# EAGLE library part 40W_PI_HAT_TPH (library PiDemo_Parts)
PIN HEADER
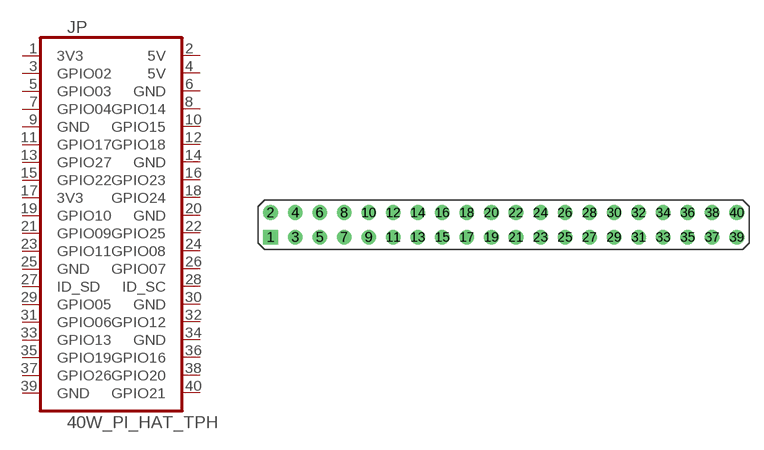
[diagram p0: symbol with the pads of 2X20; footprint 2X20]

Designator prefix JP

## 40W_PI_HAT_TPH  [2X20]
1  3V3  pas
2  5V  pas
3  GPIO02  pas
4  5V  pas
5  GPIO03  pas
6  GND  pas
7  GPIO04  pas
8  GPIO14  pas
9  GND  pas
10  GPIO15  pas
11  GPIO17  pas
12  GPIO18  pas
13  GPIO27  pas
14  GND  pas
15  GPIO22  pas
16  GPIO23  pas
17  3V3  pas
18  GPIO24  pas
19  GPIO10  pas
20  GND  pas
21  GPIO09  pas
22  GPIO25  pas
23  GPIO11  pas
24  GPIO08  pas
25  GND  pas
26  GPIO07  pas
27  ID_SD  pas
28  ID_SC  pas
29  GPIO05  pas
30  GND  pas
31  GPIO06  pas
32  GPIO12  pas
33  GPIO13  pas
34  GND  pas
35  GPIO19  pas
36  GPIO16  pas
37  GPIO26  pas
38  GPIO20  pas
39  GND  pas
40  GPIO21  pas

## Footprint 2X20 (pad centres in mm)
PIN HEADER
drill 1 square: 1 -24.13,-1.27
drill 1: 2 -24.13,1.27; 3 -21.59,-1.27; 4 -21.59,1.27; 5 -19.05,-1.27; 6 -19.05,1.27; 7 -16.51,-1.27; 8 -16.51,1.27; 9 -13.97,-1.27; 10 -13.97,1.27; 11 -11.43,-1.27; 12 -11.43,1.27; 13 -8.89,-1.27; 14 -8.89,1.27; 15 -6.35,-1.27; 16 -6.35,1.27; 17 -3.81,-1.27; 18 -3.81,1.27; 19 -1.27,-1.27; 20 -1.27,1.27; 21 1.27,-1.27; 22 1.27,1.27; 23 3.81,-1.27; 24 3.81,1.27; 25 6.35,-1.27; 26 6.35,1.27; 27 8.89,-1.27; 28 8.89,1.27; 29 11.43,-1.27; 30 11.43,1.27; 31 13.97,-1.27; 32 13.97,1.27; 33 16.51,-1.27; 34 16.51,1.27; 35 19.05,-1.27; 36 19.05,1.27; 37 21.59,-1.27; 38 21.59,1.27; 39 24.13,-1.27; 40 24.13,1.27